# EAGLE library part TCA6507RUER (library synapseWearV1-4)
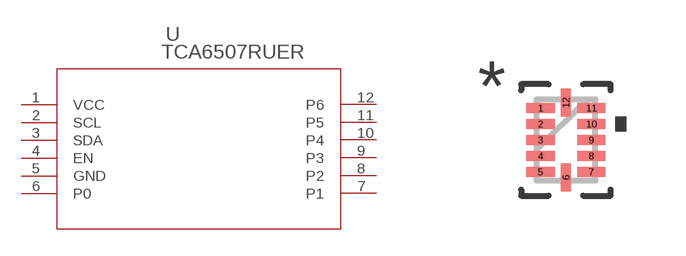
[diagram p9: symbol with the pads of RUE12; footprint RUE12]

Designator prefix U

## TCA6507RUER (MANUFACTURER_PART_NUMBER: TCA6507RUER; VENDOR: Texas Instruments)  [RUE12]
1  VCC
2  SCL  pas
3  SDA  pas
4  EN  in
5  GND  pwr
6  P0  out
7  P1  out
8  P2  out
9  P3  out
10  P4  out
11  P5  out
12  P6  out

## Footprint RUE12 (pad centres in mm)
smd 0.704 x 0.25: 1 -0.636,0.8; 2 -0.636,0.4; 3 -0.636,0; 4 -0.636,-0.4; 5 -0.636,-0.8; 7 0.636,-0.8; 8 0.636,-0.4; 9 0.636,0; 10 0.636,0.4; 11 0.636,0.8
smd 0.25 x 0.704: 6 0,-0.936; 12 0,0.936